# Altium schematic symbol library RockerBox.SchLib: 5 symbols
Pins are listed as number, name and electrical type; pins without a type are passive.

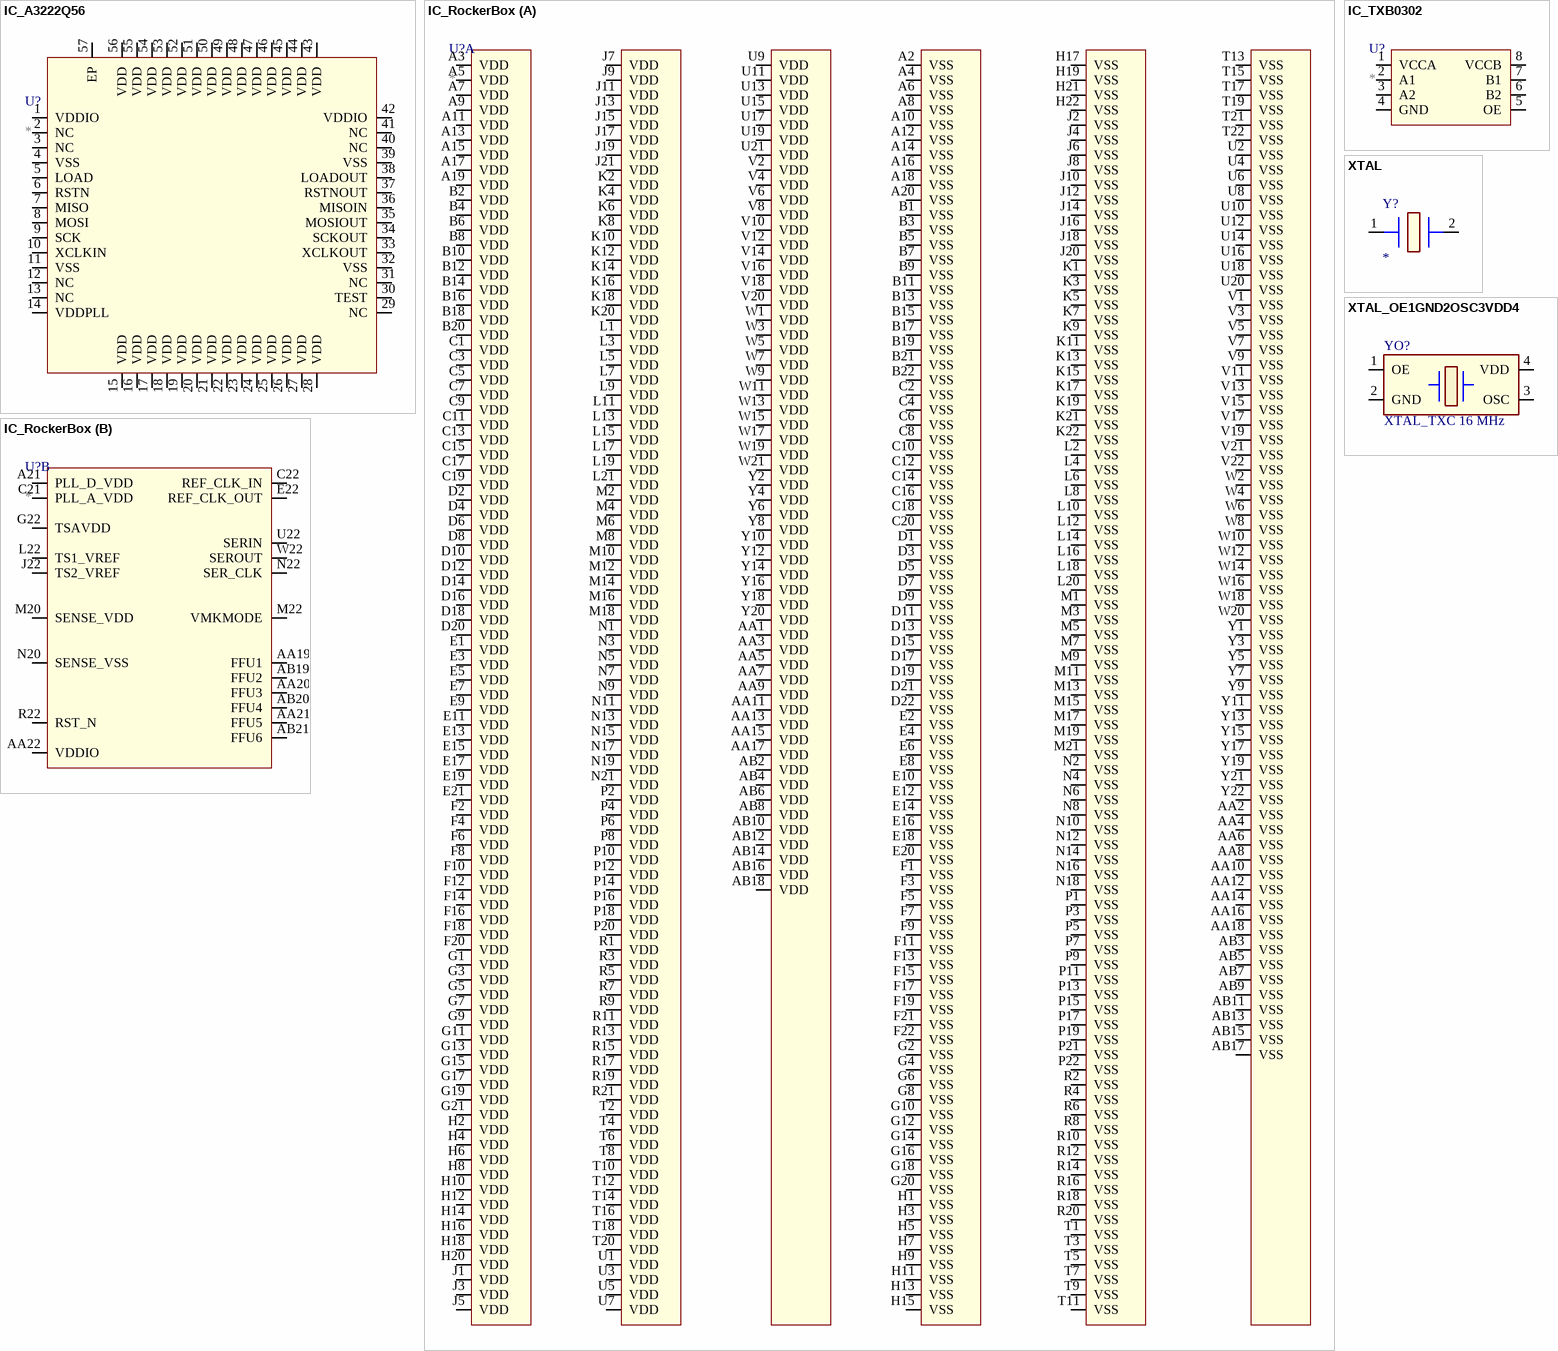
[diagram p0: symbols IC_A3222Q56 to XTAL_OE1GND2OSC3VDD4]

## IC_A3222Q56
designator U?
footprint SMD_QFN50P800X800X80-57N
pins: 1 VDDIO, 2 NC, 3 NC, 4 VSS, 5 LOAD, 6 RSTN, 7 MISO, 8 MOSI, 9 SCK, 10 XCLKIN, 11 VSS, 12 NC, 13 NC, 14 VDDPLL, 15 VDD, 16 VDD, 17 VDD, 18 VDD, 19 VDD, 20 VDD, 21 VDD, 22 VDD, 23 VDD, 24 VDD, 25 VDD, 26 VDD, 27 VDD, 28 VDD, 29 NC, 30 TEST, 31 NC, 32 VSS, 33 XCLKOUT, 34 SCKOUT, 35 MOSIOUT, 36 MISOIN, 37 RSTNOUT, 38 LOADOUT, 39 VSS, 40 NC, 41 NC, 42 VDDIO, 43 VDD, 44 VDD, 45 VDD, 46 VDD, 47 VDD, 48 VDD, 49 VDD, 50 VDD, 51 VDD, 52 VDD, 53 VDD, 54 VDD, 55 VDD, 56 VDD, 57 EP

## IC_RockerBox
designator U?
DB_PCB_DEVICE: SMD_BGA480C80P22X22
footprint SMD_BGA480C80P22X22
part A pins: A2 VSS, A3 VDD, A4 VSS, A5 VDD, A6 VSS, A7 VDD, A8 VSS, A9 VDD, A10 VSS, A11 VDD, A12 VSS, A13 VDD, A14 VSS, A15 VDD, A16 VSS, A17 VDD, A18 VSS, A19 VDD, A20 VSS, AA1 VDD, AA2 VSS, AA3 VDD, AA4 VSS, AA5 VDD, AA6 VSS, AA7 VDD, AA8 VSS, AA9 VDD, AA10 VSS, AA11 VDD, AA12 VSS, AA13 VDD, AA14 VSS, AA15 VDD, AA16 VSS, AA17 VDD, AA18 VSS, AB2 VDD, AB3 VSS, AB4 VDD, AB5 VSS, AB6 VDD, AB7 VSS, AB8 VDD, AB9 VSS, AB10 VDD, AB11 VSS, AB12 VDD, AB13 VSS, AB14 VDD, AB15 VSS, AB16 VDD, AB17 VSS, AB18 VDD, B1 VSS, B2 VDD, B3 VSS, B4 VDD, B5 VSS, B6 VDD, B7 VSS, B8 VDD, B9 VSS, B10 VDD, B11 VSS, B12 VDD, B13 VSS, B14 VDD, B15 VSS, B16 VDD, B17 VSS, B18 VDD, B19 VSS, B20 VDD, B21 VSS, B22 VSS, C1 VDD, C2 VSS, C3 VDD, C4 VSS, C5 VDD, C6 VSS, C7 VDD, C8 VSS, C9 VDD, C10 VSS, C11 VDD, C12 VSS, C13 VDD, C14 VSS, C15 VDD, C16 VSS, C17 VDD, C18 VSS, C19 VDD, C20 VSS, D1 VSS, D2 VDD, D3 VSS, D4 VDD, D5 VSS, D6 VDD, D7 VSS, D8 VDD, D9 VSS, D10 VDD, D11 VSS, D12 VDD, D13 VSS, D14 VDD, D15 VSS, D16 VDD, D17 VSS, D18 VDD, D19 VSS, D20 VDD, D21 VSS, D22 VSS, E1 VDD, E2 VSS, E3 VDD, E4 VSS, E5 VDD, E6 VSS, E7 VDD, E8 VSS, E9 VDD, E10 VSS, E11 VDD, E12 VSS, E13 VDD, E14 VSS, E15 VDD, E16 VSS, E17 VDD, E18 VSS, E19 VDD, E20 VSS, E21 VDD, F1 VSS, F2 VDD, F3 VSS, F4 VDD, F5 VSS, F6 VDD, F7 VSS, F8 VDD, F9 VSS, F10 VDD, F11 VSS, F12 VDD, F13 VSS, F14 VDD, F15 VSS, F16 VDD, F17 VSS, F18 VDD, F19 VSS, F20 VDD, F21 VSS, F22 VSS, G1 VDD, G2 VSS, G3 VDD, G4 VSS, G5 VDD, G6 VSS, G7 VDD, G8 VSS, G9 VDD, G10 VSS, G11 VDD, G12 VSS, G13 VDD, G14 VSS, G15 VDD, G16 VSS, G17 VDD, G18 VSS, G19 VDD, G20 VSS, G21 VDD, H1 VSS, H2 VDD, H3 VSS, H4 VDD, H5 VSS, H6 VDD, H7 VSS, H8 VDD, H9 VSS, H10 VDD, H11 VSS, H12 VDD, H13 VSS, H14 VDD, H15 VSS, H16 VDD, H17 VSS, H18 VDD, H19 VSS, H20 VDD, H21 VSS, H22 VSS, J1 VDD, J2 VSS, J3 VDD, J4 VSS, J5 VDD, J6 VSS, J7 VDD, J8 VSS, J9 VDD, J10 VSS, J11 VDD, J12 VSS, J13 VDD, J14 VSS, J15 VDD, J16 VSS, J17 VDD, J18 VSS, J19 VDD, J20 VSS, J21 VDD, K1 VSS, K2 VDD, K3 VSS, K4 VDD, K5 VSS, K6 VDD, K7 VSS, K8 VDD, K9 VSS, K10 VDD, K11 VSS, K12 VDD, K13 VSS, K14 VDD, K15 VSS, K16 VDD, K17 VSS, K18 VDD, K19 VSS, K20 VDD, K21 VSS, K22 VSS, L1 VDD, L2 VSS, L3 VDD, L4 VSS, L5 VDD, L6 VSS, L7 VDD, L8 VSS, L9 VDD, L10 VSS, L11 VDD, L12 VSS, L13 VDD, L14 VSS, L15 VDD, L16 VSS, L17 VDD, L18 VSS, L19 VDD, L20 VSS, L21 VDD, M1 VSS, M2 VDD, M3 VSS, M4 VDD, M5 VSS, M6 VDD, M7 VSS, M8 VDD, M9 VSS, M10 VDD, M11 VSS, M12 VDD, M13 VSS, M14 VDD, M15 VSS, M16 VDD, M17 VSS, M18 VDD, M19 VSS, M21 VSS, N1 VDD, N2 VSS, N3 VDD, N4 VSS, N5 VDD, N6 VSS, N7 VDD, N8 VSS, N9 VDD, N10 VSS, N11 VDD, N12 VSS, N13 VDD, N14 VSS, N15 VDD, N16 VSS, N17 VDD, N18 VSS, N19 VDD, N21 VDD, P1 VSS, P2 VDD, P3 VSS, P4 VDD, P5 VSS, P6 VDD, P7 VSS, P8 VDD, P9 VSS, P10 VDD, P11 VSS, P12 VDD, P13 VSS, P14 VDD, P15 VSS, P16 VDD, P17 VSS, P18 VDD, P19 VSS, P20 VDD, P21 VSS, P22 VSS, R1 VDD, R2 VSS, R3 VDD, R4 VSS, R5 VDD, R6 VSS, R7 VDD, R8 VSS, R9 VDD, R10 VSS, R11 VDD, R12 VSS, R13 VDD, R14 VSS, R15 VDD, R16 VSS, R17 VDD, R18 VSS, R19 VDD, R20 VSS, R21 VDD, T1 VSS, T2 VDD, T3 VSS, T4 VDD, T5 VSS, T6 VDD, T7 VSS, T8 VDD, T9 VSS, T10 VDD, T11 VSS, T12 VDD, T13 VSS, T14 VDD, T15 VSS, T16 VDD, T17 VSS, T18 VDD, T19 VSS, T20 VDD, T21 VSS, T22 VSS, U1 VDD, U2 VSS, U3 VDD, U4 VSS, U5 VDD, U6 VSS, U7 VDD, U8 VSS, U9 VDD, U10 VSS, U11 VDD, U12 VSS, U13 VDD, U14 VSS, U15 VDD, U16 VSS, U17 VDD, U18 VSS, U19 VDD, U20 VSS, U21 VDD, V1 VSS, V2 VDD, V3 VSS, V4 VDD, V5 VSS, V6 VDD, V7 VSS, V8 VDD, V9 VSS, V10 VDD, V11 VSS, V12 VDD, V13 VSS, V14 VDD, V15 VSS, V16 VDD, V17 VSS, V18 VDD, V19 VSS, V20 VDD, V21 VSS, V22 VSS, W1 VDD, W2 VSS, W3 VDD, W4 VSS, W5 VDD, W6 VSS, W7 VDD, W8 VSS, W9 VDD, W10 VSS, W11 VDD, W12 VSS, W13 VDD, W14 VSS, W15 VDD, W16 VSS, W17 VDD, W18 VSS, W19 VDD, W20 VSS, W21 VDD, Y1 VSS, Y2 VDD, Y3 VSS, Y4 VDD, Y5 VSS, Y6 VDD, Y7 VSS, Y8 VDD, Y9 VSS, Y10 VDD, Y11 VSS, Y12 VDD, Y13 VSS, Y14 VDD, Y15 VSS, Y16 VDD, Y17 VSS, Y18 VDD, Y19 VSS, Y20 VDD, Y21 VSS, Y22 VSS
part B pins: A21 PLL_D_VDD, AA19 FFU1, AA20 FFU3, AA21 FFU5, AA22 VDDIO, AB19 FFU2, AB20 FFU4, AB21 FFU6, C21 PLL_A_VDD, C22 REF_CLK_IN, E22 REF_CLK_OUT, G22 TSAVDD, J22 TS2_VREF, L22 TS1_VREF, M20 SENSE_VDD, M22 VMKMODE, N20 SENSE_VSS, N22 SER_CLK, R22 RST_N, U22 SERIN, W22 SEROUT

## IC_TXB0302
designator U?
DB_PCB_DEVICE: SMD_PSON40P120X180X40-8N
footprint SMD_PSON40P120X180X40-8N
pins: 1 VCCA, 2 A1, 3 A2, 4 GND, 5 OE, 6 B2, 7 B1, 8 VCCB

## XTAL
designator Y?
NOTE: <NOTE>
pins: 1, 2

## XTAL_OE1GND2OSC3VDD4
designator YO?, comment XTAL_TXC 16 MHz
NOTE: <NOTE>
footprint SMD_OSC_TA 7x5mm
footprint SMD_OSC_DFN_2.5X3.2MM
pins: 1 OE, 2 GND, 3 OSC, 4 VDD